# EAGLE library part STM32F050F_BASE_MINI (library my-library)
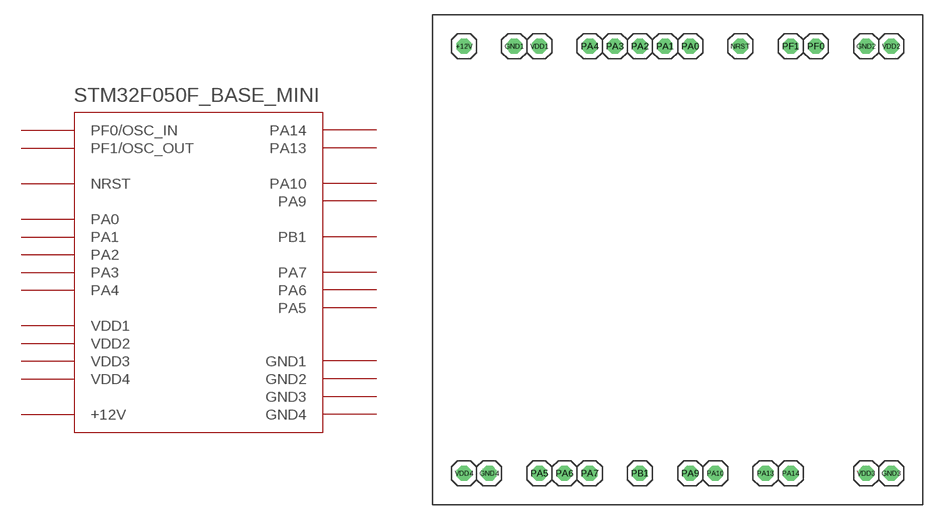
[diagram p5: symbol with the pads of STM32_BASE_MINI; footprint STM32_BASE_MINI]

Designator prefix -

## STM32F050F_BASE_MINI  [STM32_BASE_MINI]
+12V  +12V  pas
GND1  GND1  pas
GND2  GND2  pas
GND3  GND3  pas
GND4  GND4  pas
NRST  NRST  pas
PA0  PA0  pas
PA1  PA1  pas
PA2  PA2  pas
PA3  PA3  pas
PA4  PA4  pas
PA5  PA5  pas
PA6  PA6  pas
PA7  PA7  pas
PA9  PA9  pas
PA10  PA10  pas
PA13  PA13  pas
PA14  PA14  pas
PB1  PB1  pas
PF0  PF0/OSC_IN  pas
PF1  PF1/OSC_OUT  pas
VDD1  VDD1  pas
VDD2  VDD2  pas
VDD3  VDD3  pas
VDD4  VDD4  pas

## Footprint STM32_BASE_MINI (pad centres in mm)
drill 1.016 octagon: +12V 3.175,46.355; GND1 8.255,46.355; GND2 43.815,46.355; GND3 46.355,3.175; GND4 5.715,3.175; NRST 31.115,46.355; PA0 26.035,46.355; PA1 23.495,46.355; PA2 20.955,46.355; PA3 18.415,46.355; PA4 15.875,46.355; PA5 10.795,3.175; PA6 13.335,3.175; PA7 15.875,3.175; PA9 26.035,3.175; PA10 28.575,3.175; PA13 33.655,3.175; PA14 36.195,3.175; PB1 20.955,3.175; PF0 38.735,46.355; PF1 36.195,46.355; VDD1 10.795,46.355; VDD2 46.355,46.355; VDD3 43.815,3.175; VDD4 3.175,3.175